# Altium schematic symbol library CONN HEADER VERT 10POS.SchLib: 1 symbol
Pins are listed as number, name and electrical type; pins without a type are passive.

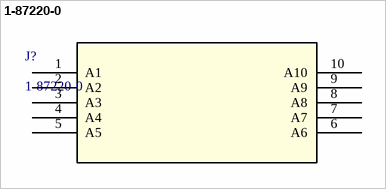
[diagram p0: symbol 1-87220-0]

## 1-87220-0
designator J?
No Description Available; Mfr_Name: TE Connectivity; Copyright: Copyright (C) 2021 Ultra Librarian. All rights reserved.; Manufacturer_Part_Number: 1-87220-0; RefDes: RefDes; Type: DEV
footprint 1-87224-0_TYC
pins: 1 A1, 2 A2, 3 A3, 4 A4, 5 A5, 6 A6, 7 A7, 8 A8, 9 A9, 10 A10